# Altium footprint library ESD5Z6.PCBLIB: 1 footprints
Each footprint in its own frame and in the unit in brackets; x right, y up, seen from the top. Pads: shape width x height; smd on the part's side, far side on the other; paste and mask are expansions set on the pad; w line width, h text height; cw(c..) or ccw(c..) is an arc to the next point about the centre after c.
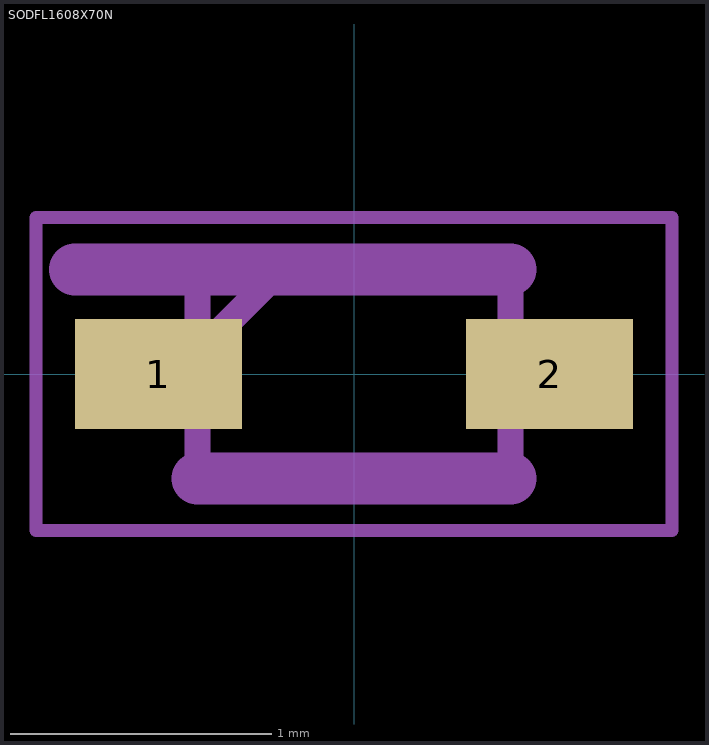
[diagram p0: the footprint, top view; thin cyan lines are the x and y axes]

## SODFL1608X70N [mm]
pads (2):
  rect 0.64x0.42 smd: 1(-0.75,0) 2(0.75,0)
Assembly Top:
  lines w0.05: -1.22,-0.6 -1.22,0.6 1.22,0.6 1.22,-0.6 -1.22,-0.6
  lines w0.1: -0.6,0.08 -0.28,0.4 ; -0.6,-0.4 -0.6,0.4 0.6,0.4 0.6,-0.4 -0.6,-0.4
Mechanical 22:
  lines w0.2: -1.07,0.4 0.6,0.4 ; -0.6,-0.4 0.6,-0.4
3D body: height 0.46, standoff 0, extent -0.851,-0.444 0.851,0.444